# Altium schematic symbol library Amplifier_Current.SchLib: 150 symbols (part 1 of 2)
Pins are listed as number, name and electrical type; pins without a type are passive.

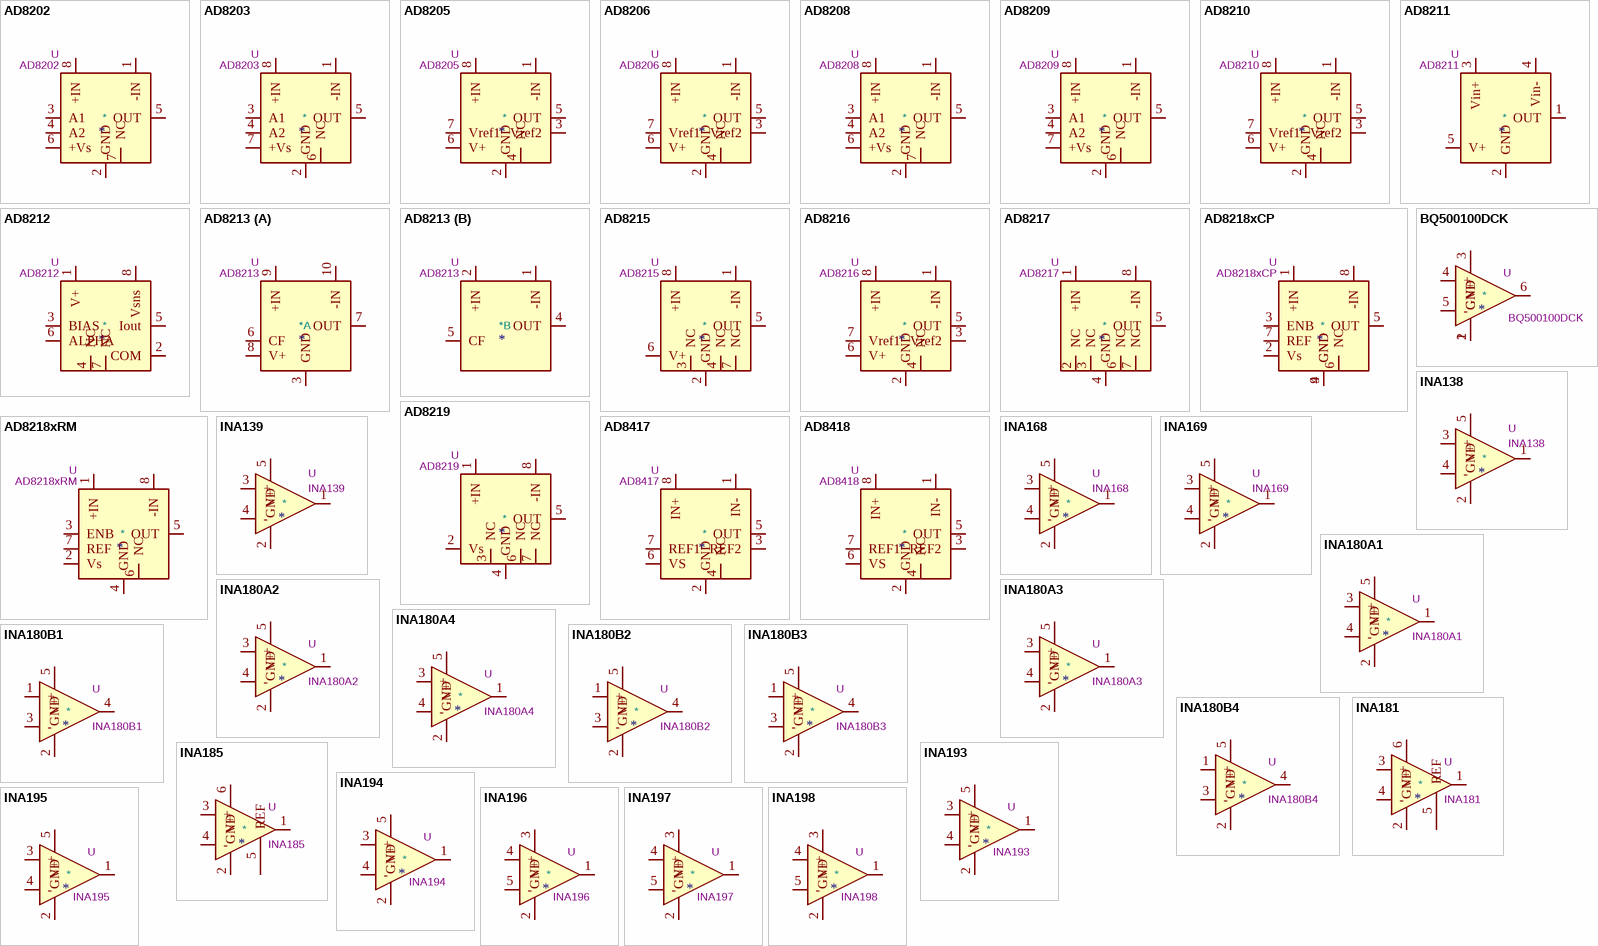
[diagram p0: symbols AD8202 to INA198]

## AD8202
designator *  value AD8202  Reference: U
28V High Common-Mode Voltage, Single-Supply Difference Amplifier, 10V/V x 2V/V adjustable gain, bandwidth 50kHz, Vcc=3.5V~12V, unidirectional, SOIC-8/MSOP-8; ki_keywords: highside HS current sense amplifier linear buffered monitor preamp; ki_fp_filters: SOIC*P1.27mm* MSOP*P0.65mm*; Datasheet: https://www.analog.com/media/en/technical-documentation/data-sheets/AD8202.pdf; Description_: 28V High Common-Mode Voltage, Single-Supply Difference Amplifier, 10V/V x 2V/V adjustable gain, bandwidth 50kHz, Vcc=3.5V~12V, unidirectional, SOIC-8/MSOP-8
pins: 1 -IN, 2 GND, 3 A1, 4 A2, 5 OUT, 6 +Vs, 7 NC, 8 +IN

## AD8203
designator *  value AD8203  Reference: U
30V High Common-Mode Voltage, Single-Supply Difference Amplifier, 7V/V x 2V/V adjustable gain, bandwidth 60kHz, Vcc=3.5V~12V, unidirectional, SOIC-8/MSOP-8; ki_keywords: highside HS current sense amplifier linear buffered monitor preamp; ki_fp_filters: SOIC*P1.27mm* MSOP*P0.65mm*; Datasheet: https://www.analog.com/media/en/technical-documentation/data-sheets/AD8203.pdf; Description_: 30V High Common-Mode Voltage, Single-Supply Difference Amplifier, 7V/V x 2V/V adjustable gain, bandwidth 60kHz, Vcc=3.5V~12V, unidirectional, SOIC-8/MSOP-8
pins: 1 -IN, 2 GND, 3 A1, 4 A2, 5 OUT, 6 NC, 7 +Vs, 8 +IN

## AD8205
designator *  value AD8205  Reference: U
65V Single-Supply, System Difference Amplifier, 50V/V gain, bandwidth 50kHz, Vcc=5V, SOIC-8; ki_keywords: highside HS difference amplifier linear buffered; ki_fp_filters: SOIC*3.9x4.9mm*P1.27mm*; Footprint: Package_SO:SOIC-8_3.9x4.9mm_P1.27mm; Datasheet: https://www.analog.com/media/en/technical-documentation/data-sheets/AD8205.pdf; Description_: 65V Single-Supply, System Difference Amplifier, 50V/V gain, bandwidth 50kHz, Vcc=5V, SOIC-8
pins: 1 -IN, 2 GND, 3 Vref2, 4 NC, 5 OUT, 6 V+, 7 Vref1, 8 +IN

## AD8206
designator *  value AD8206  Reference: U
65V High Common-Mode Voltage, Bidirectional, Current Shunt Amplifier, 20V/V gain, bandwidth 100kHz, Vcc=5V, SOIC-8; ki_keywords: highside HS current sense amplifier linear buffered; ki_fp_filters: SOIC*3.9x4.9mm*P1.27mm*; Footprint: Package_SO:SOIC-8_3.9x4.9mm_P1.27mm; Datasheet: https://www.analog.com/media/en/technical-documentation/data-sheets/AD8206.pdf; Description_: 65V High Common-Mode Voltage, Bidirectional, Current Shunt Amplifier, 20V/V gain, bandwidth 100kHz, Vcc=5V, SOIC-8
pins: 1 -IN, 2 GND, 3 Vref2, 4 NC, 5 OUT, 6 V+, 7 Vref1, 8 +IN

## AD8208
designator *  value AD8208  Reference: U
45V High Voltage, Precision Difference Amplifier, 10V/V x 2V/V adjustable gain, bandwidth 70kHz, Vcc=5V, unidirectional, SOIC-8/MSOP-8; ki_keywords: highside HS current sense amplifier linear buffered monitor preamp; ki_fp_filters: SOIC*P1.27mm* MSOP*P0.65mm*; Datasheet: https://www.analog.com/media/en/technical-documentation/data-sheets/AD8208.pdf; Description_: 45V High Voltage, Precision Difference Amplifier, 10V/V x 2V/V adjustable gain, bandwidth 70kHz, Vcc=5V, unidirectional, SOIC-8/MSOP-8
pins: 1 -IN, 2 GND, 3 A1, 4 A2, 5 OUT, 6 +Vs, 7 NC, 8 +IN

## AD8209
designator *  value AD8209  Reference: U
45V High Voltage, Precision Difference Amplifier, 7V/V x 2V/V adjustable gain, bandwidth 80kHz, Vcc=5V, unidirectional, MSOP-8; ki_keywords: highside HS current sense amplifier linear buffered monitor preamp; ki_fp_filters: SOIC*P1.27mm* MSOP*P0.65mm*; Datasheet: https://www.analog.com/media/en/technical-documentation/data-sheets/AD8209.pdf; Description_: 45V High Voltage, Precision Difference Amplifier, 7V/V x 2V/V adjustable gain, bandwidth 80kHz, Vcc=5V, unidirectional, MSOP-8
pins: 1 -IN, 2 GND, 3 A1, 4 A2, 5 OUT, 6 NC, 7 +Vs, 8 +IN

## AD8210
designator *  value AD8210  Reference: U
65V High Voltage, Bidirectional Current Shunt Monitor, 20V/V gain, bandwidth 450kHz, Vcc=5V, SOIC-8; ki_keywords: highside HS current sense amplifier linear buffered; ki_fp_filters: SOIC*3.9x4.9mm*P1.27mm*; Footprint: Package_SO:SOIC-8_3.9x4.9mm_P1.27mm; Datasheet: https://www.analog.com/media/en/technical-documentation/data-sheets/AD8210.pdf; Description_: 65V High Voltage, Bidirectional Current Shunt Monitor, 20V/V gain, bandwidth 450kHz, Vcc=5V, SOIC-8
pins: 1 -IN, 2 GND, 3 Vref2, 4 NC, 5 OUT, 6 V+, 7 Vref1, 8 +IN

## AD8211
designator *  value AD8211  Reference: U
65V High Voltage, Current Shunt Monitor, 20V/V gain, bandwidth 500kHz, Vcc=5V, SOT-23-5; ki_keywords: highside HS current sense amplifier linear buffered; ki_fp_filters: SOT?23*; Footprint: Package_TO_SOT_SMD:SOT-23-5; Datasheet: https://www.analog.com/media/en/technical-documentation/data-sheets/AD8211.pdf; Description_: 65V High Voltage, Current Shunt Monitor, 20V/V gain, bandwidth 500kHz, Vcc=5V, SOT-23-5
pins: 1 OUT, 2 GND, 3 Vin+, 4 Vin-, 5 V+

## AD8212
designator *  value AD8212  Reference: U
65V High Voltage Current, Shunt Monitor, adjustable gain, bandwidth 1000kHz, Vcc=7V~65V, current output, unidirectional, MSOP-8; ki_keywords: highside HS current sense shunt monitor amplifier linear; ki_fp_filters: MSOP*3x3mm*P0.65mm*; Footprint: Package_SO:MSOP-8_3x3mm_P0.65mm; Datasheet: https://www.analog.com/media/en/technical-documentation/data-sheets/AD8212.pdf; Description_: 65V High Voltage Current, Shunt Monitor, adjustable gain, bandwidth 1000kHz, Vcc=7V~65V, current output, unidirectional, MSOP-8
pins: 1 V+, 2 COM, 3 BIAS, 4 NC, 5 Iout, 6 ALPHA, 7 NC, 8 Vsns

## AD8213
designator *  value AD8213  Reference: U
65V Dual, High Voltage, Current Shunt Monitor, 20V/V gain, bandwidth 500kHz, Vcc=5V, MSOP-10; ki_keywords: highside HS current sense amplifier linear buffered dual monitor; ki_fp_filters: MSOP*3x3mm*P0.5mm*; Footprint: Package_SO:MSOP-10_3x3mm_P0.5mm; Datasheet: https://www.analog.com/media/en/technical-documentation/data-sheets/AD8213.pdf; Description_: 65V Dual, High Voltage, Current Shunt Monitor, 20V/V gain, bandwidth 500kHz, Vcc=5V, MSOP-10
part A pins: 3 GND, 6 CF, 7 OUT, 8 V+, 9 +IN, 10 -IN
part B pins: 1 -IN, 2 +IN, 4 OUT, 5 CF

## AD8215
designator *  value AD8215  Reference: U
65V High Voltage, Current Shunt Monitor, 20V/V gain, bandwidth 450kHz, Vcc=5V, unidirectional, SOIC-8; ki_keywords: highside HS current sense amplifier linear buffered monitor; ki_fp_filters: SOIC*3.9x4.9mm*P1.27mm*; Footprint: Package_SO:SOIC-8_3.9x4.9mm_P1.27mm; Datasheet: https://www.analog.com/media/en/technical-documentation/data-sheets/AD8215.pdf; Description_: 65V High Voltage, Current Shunt Monitor, 20V/V gain, bandwidth 450kHz, Vcc=5V, unidirectional, SOIC-8
pins: 1 -IN, 2 GND, 3 NC, 4 NC, 5 OUT, 6 V+, 7 NC, 8 +IN

## AD8216
designator *  value AD8216  Reference: U
65V High Bandwidth, Bidirectional Difference Amplifier, 3V/V gain, bandwidth 3MHz, Vcc=5V, SOIC-8; ki_keywords: HS difference amplifier linear; ki_fp_filters: SOIC*3.9x4.9mm*P1.27mm*; Footprint: Package_SO:SOIC-8_3.9x4.9mm_P1.27mm; Datasheet: https://www.analog.com/media/en/technical-documentation/data-sheets/AD8216.pdf; Description_: 65V High Bandwidth, Bidirectional Difference Amplifier, 3V/V gain, bandwidth 3MHz, Vcc=5V, SOIC-8
pins: 1 -IN, 2 GND, 3 Vref2, 4 NC, 5 OUT, 6 V+, 7 Vref1, 8 +IN

## AD8217
designator *  value AD8217  Reference: U
80V High Resolution, Zero-Drift, Current Shunt Monitor, 20V/V gain, bandwidth 500kHz, internal LDO, unidirectional, MSOP-8; ki_keywords: highside HS current sense amplifier linear buffered monitor; ki_fp_filters: MSOP*3x3mm*P0.65mm*; Footprint: Package_SO:MSOP-8_3x3mm_P0.65mm; Datasheet: https://www.analog.com/media/en/technical-documentation/data-sheets/AD8217.pdf; Description_: 80V High Resolution, Zero-Drift, Current Shunt Monitor, 20V/V gain, bandwidth 500kHz, internal LDO, unidirectional, MSOP-8
pins: 1 +IN, 2 NC, 3 NC, 4 GND, 5 OUT, 6 NC, 7 NC, 8 -IN

## AD8218xCP
designator *  value AD8218xCP  Reference: U
80V Zero Drift, Bidirectional, Current Shunt Monitor, 20V/V gain, bandwidth 450kHz, Vcc=5V, LFCSP-8; ki_keywords: highside HS current sense amplifier linear buffered; ki_fp_filters: LFCSP*1EP*3x2mm*P0.5mm*; Footprint: Package_CSP:LFCSP-8-1EP_3x2mm_P0.5mm_EP1.6x1.65mm; Datasheet: https://www.analog.com/media/en/technical-documentation/data-sheets/AD8218.pdf; Description_: 80V Zero Drift, Bidirectional, Current Shunt Monitor, 20V/V gain, bandwidth 450kHz, Vcc=5V, LFCSP-8
pins: 1 +IN, 2 Vs, 3 ENB, 4 GND, 5 OUT, 6 NC, 7 REF, 8 -IN, 9 GND

## AD8218xRM
designator *  value AD8218xRM  Reference: U
80V Zero Drift, Bidirectional, Current Shunt Monitor, 20V/V gain, bandwidth 450kHz, Vcc=5V, MSOP-8; ki_keywords: highside HS current sense amplifier linear buffered; ki_fp_filters: MSOP*3x3mm*P0.65mm*; Footprint: Package_SO:MSOP-8_3x3mm_P0.65mm; Datasheet: https://www.analog.com/media/en/technical-documentation/data-sheets/AD8218.pdf; Description_: 80V Zero Drift, Bidirectional, Current Shunt Monitor, 20V/V gain, bandwidth 450kHz, Vcc=5V, MSOP-8
pins: 1 +IN, 2 Vs, 3 ENB, 4 GND, 5 OUT, 6 NC, 7 REF, 8 -IN

## AD8219
designator *  value AD8219  Reference: U
80V Zero Drift, Unidirectional, Current Shunt Monitor, 60V/V gain, bandwidth 500kHz, Vcc=4V~80V, MSOP-8; ki_keywords: highside HS current sense amplifier linear buffered monitor; ki_fp_filters: MSOP*3x3mm*P0.65mm*; Footprint: Package_SO:MSOP-8_3x3mm_P0.65mm; Datasheet: https://www.analog.com/media/en/technical-documentation/data-sheets/AD8219.pdf; Description_: 80V Zero Drift, Unidirectional, Current Shunt Monitor, 60V/V gain, bandwidth 500kHz, Vcc=4V~80V, MSOP-8
pins: 1 +IN, 2 Vs, 3 NC, 4 GND, 5 OUT, 6 NC, 7 NC, 8 -IN

## AD8417
designator *  value AD8417  Reference: U
70V Bidirectional, Zero Drift, Current Sense Amplifier, 60V/V gain, bandwidth 250kHz, VS=2.7V~5.5V, SOIC-8/MSOP-8; ki_keywords: highside HS current sense amplifier linear; ki_fp_filters: SOIC*3.9x4.9mm*P1.27mm* MSOP*3x3mm*P0.65mm*; Datasheet: https://www.analog.com/media/en/technical-documentation/data-sheets/AD8417.pdf; Description_: 70V Bidirectional, Zero Drift, Current Sense Amplifier, 60V/V gain, bandwidth 250kHz, VS=2.7V~5.5V, SOIC-8/MSOP-8
pins: 1 IN-, 2 GND, 3 REF2, 4 NC, 5 OUT, 6 VS, 7 REF1, 8 IN+

## AD8418
designator *  value AD8418  Reference: U
70V Bidirectional, Zero Drift, Current Sense Amplifier, 20V/V gain, bandwidth 250kHz, VS=2.7V~5.5V, SOIC-8/MSOP-8; ki_keywords: highside HS current sense amplifier linear; ki_fp_filters: SOIC*3.9x4.9mm*P1.27mm* MSOP*3x3mm*P0.65mm*; Datasheet: https://www.analog.com/media/en/technical-documentation/data-sheets/AD8418.pdf; Description_: 70V Bidirectional, Zero Drift, Current Sense Amplifier, 20V/V gain, bandwidth 250kHz, VS=2.7V~5.5V, SOIC-8/MSOP-8
pins: 1 IN-, 2 GND, 3 REF2, 4 NC, 5 OUT, 6 VS, 7 REF1, 8 IN+

## BQ500100DCK
designator *  value BQ500100DCK  Reference: U
20V High side current sensor, Voltage Output, 50V/V Gain, SC-70-6; ki_keywords: Current shunt monitor; ki_fp_filters: SOT?363*; Footprint: Package_TO_SOT_SMD:SOT-363_SC-70-6; Datasheet: http://www.ti.com/lit/ds/symlink/bq500100.pdf; Description_: 20V High side current sensor, Voltage Output, 50V/V Gain, SC-70-6
pins: 1 GND, 2 GND, 3 V+, 4 +, 5 -, 6

## INA138
designator *  value INA138  Reference: U
High-Side Measurement Current Shunt Monitor, 36V, SOT-23-5; ki_keywords: current sense shunt monitor; ki_fp_filters: SOT?23*; Footprint: Package_TO_SOT_SMD:SOT-23-5; Datasheet: http://www.ti.com/lit/ds/symlink/ina138.pdf; Description_: High-Side Measurement Current Shunt Monitor, 36V, SOT-23-5
pins: 1, 2 GND, 3 +, 4 -, 5 V+

## INA139
designator *  value INA139  Reference: U
High-Side Measurement Current Shunt Monitor, 40V, SOT-23-5; ki_keywords: current sense shunt monitor; ki_fp_filters: SOT?23*; Footprint: Package_TO_SOT_SMD:SOT-23-5; Datasheet: http://www.ti.com/lit/ds/symlink/ina169.pdf; Description_: High-Side Measurement Current Shunt Monitor, 40V, SOT-23-5
pins: 1, 2 GND, 3 +, 4 -, 5 V+

## INA168
designator *  value INA168  Reference: U
High-Side Measurement Current Shunt Monitor, 60V, SOT-23-5; ki_keywords: current sense shunt monitor; ki_fp_filters: SOT?23*; Footprint: Package_TO_SOT_SMD:SOT-23-5; Datasheet: http://www.ti.com/lit/ds/symlink/ina138.pdf; Description_: High-Side Measurement Current Shunt Monitor, 60V, SOT-23-5
pins: 1, 2 GND, 3 +, 4 -, 5 V+

## INA169
designator *  value INA169  Reference: U
High-Side Measurement Current Shunt Monitor, 60V, SOT-23-5; ki_keywords: current sense shunt monitor; ki_fp_filters: SOT?23*; Footprint: Package_TO_SOT_SMD:SOT-23-5; Datasheet: http://www.ti.com/lit/ds/symlink/ina169.pdf; Description_: High-Side Measurement Current Shunt Monitor, 60V, SOT-23-5
pins: 1, 2 GND, 3 +, 4 -, 5 V+

## INA180A1
designator *  value INA180A1  Reference: U
Current Sense Amplifier, 1 Circuit, Rail-to-Rail, 26V, Gain 20 V/V, SOT-23-5; ki_keywords: current monitor shunt sensor; ki_fp_filters: SOT?23*; Footprint: Package_TO_SOT_SMD:SOT-23-5; Datasheet: http://www.ti.com/lit/ds/symlink/ina180.pdf; Description_: Current Sense Amplifier, 1 Circuit, Rail-to-Rail, 26V, Gain 20 V/V, SOT-23-5
pins: 1, 2 GND, 3 +, 4 -, 5 V+

## INA180A2
designator *  value INA180A2  Reference: U
Current Sense Amplifier, 1 Circuit, Rail-to-Rail, 26V, Gain 50 V/V, SOT-23-5; ki_keywords: current monitor shunt sensor; ki_fp_filters: SOT?23*; Footprint: Package_TO_SOT_SMD:SOT-23-5; Datasheet: http://www.ti.com/lit/ds/symlink/ina180.pdf; Description_: Current Sense Amplifier, 1 Circuit, Rail-to-Rail, 26V, Gain 50 V/V, SOT-23-5
pins: 1, 2 GND, 3 +, 4 -, 5 V+

## INA180A3
designator *  value INA180A3  Reference: U
Current Sense Amplifier, 1 Circuit, Rail-to-Rail, 26V, Gain 100 V/V, SOT-23-5; ki_keywords: current monitor shunt sensor; ki_fp_filters: SOT?23*; Footprint: Package_TO_SOT_SMD:SOT-23-5; Datasheet: http://www.ti.com/lit/ds/symlink/ina180.pdf; Description_: Current Sense Amplifier, 1 Circuit, Rail-to-Rail, 26V, Gain 100 V/V, SOT-23-5
pins: 1, 2 GND, 3 +, 4 -, 5 V+

## INA180A4
designator *  value INA180A4  Reference: U
Current Sense Amplifier, 1 Circuit, Rail-to-Rail, 26V, Gain 200 V/V, SOT-23-5; ki_keywords: current monitor shunt sensor; ki_fp_filters: SOT?23*; Footprint: Package_TO_SOT_SMD:SOT-23-5; Datasheet: http://www.ti.com/lit/ds/symlink/ina180.pdf; Description_: Current Sense Amplifier, 1 Circuit, Rail-to-Rail, 26V, Gain 200 V/V, SOT-23-5
pins: 1, 2 GND, 3 +, 4 -, 5 V+

## INA180B1
designator *  value INA180B1  Reference: U
Current Sense Amplifier, 1 Circuit, Rail-to-Rail, 26V, Gain 20 V/V, SOT-23-5; ki_keywords: current monitor shunt sensor; ki_fp_filters: SOT?23*; Footprint: Package_TO_SOT_SMD:SOT-23-5; Datasheet: http://www.ti.com/lit/ds/symlink/ina180.pdf; Description_: Current Sense Amplifier, 1 Circuit, Rail-to-Rail, 26V, Gain 20 V/V, SOT-23-5
pins: 1 +, 2 GND, 3 -, 4, 5 V+

## INA180B2
designator *  value INA180B2  Reference: U
Current Sense Amplifier, 1 Circuit, Rail-to-Rail, 26V, Gain 50 V/V, SOT-23-5; ki_keywords: current monitor shunt sensor; ki_fp_filters: SOT?23*; Footprint: Package_TO_SOT_SMD:SOT-23-5; Datasheet: http://www.ti.com/lit/ds/symlink/ina180.pdf; Description_: Current Sense Amplifier, 1 Circuit, Rail-to-Rail, 26V, Gain 50 V/V, SOT-23-5
pins: 1 +, 2 GND, 3 -, 4, 5 V+

## INA180B3
designator *  value INA180B3  Reference: U
Current Sense Amplifier, 1 Circuit, Rail-to-Rail, 26V, Gain 100 V/V, SOT-23-5; ki_keywords: current monitor shunt sensor; ki_fp_filters: SOT?23*; Footprint: Package_TO_SOT_SMD:SOT-23-5; Datasheet: http://www.ti.com/lit/ds/symlink/ina180.pdf; Description_: Current Sense Amplifier, 1 Circuit, Rail-to-Rail, 26V, Gain 100 V/V, SOT-23-5
pins: 1 +, 2 GND, 3 -, 4, 5 V+

## INA180B4
designator *  value INA180B4  Reference: U
Current Sense Amplifier, 1 Circuit, Rail-to-Rail, 26V, Gain 200 V/V, SOT-23-5; ki_keywords: current monitor shunt sensor; ki_fp_filters: SOT?23*; Footprint: Package_TO_SOT_SMD:SOT-23-5; Datasheet: http://www.ti.com/lit/ds/symlink/ina180.pdf; Description_: Current Sense Amplifier, 1 Circuit, Rail-to-Rail, 26V, Gain 200 V/V, SOT-23-5
pins: 1 +, 2 GND, 3 -, 4, 5 V+

## INA181
designator *  value INA181  Reference: U
Bidirectional, Low- and High-Side Voltage Output, Current-Sense Amplifier, SOT-23-6; ki_keywords: current monitor shunt sensor bidirectional; ki_fp_filters: SOT?23*; Footprint: Package_TO_SOT_SMD:SOT-23-6; Datasheet: http://www.ti.com/lit/ds/symlink/ina181.pdf; Description_: Bidirectional, Low- and High-Side Voltage Output, Current-Sense Amplifier, SOT-23-6
pins: 1, 2 GND, 3 +, 4 -, 5 REF, 6 V+

## INA185
designator *  value INA185  Reference: U
Ultra-small, bidirectional, precision low-side and high-side, voltage output current-sense amplifier (SOT-563); ki_keywords: current monitor shunt sensor bidirectional; ki_fp_filters: SOT*563*; Footprint: Package_TO_SOT_SMD:SOT-563; Datasheet: https://www.ti.com/lit/ds/symlink/ina185.pdf; Description_: Ultra-small, bidirectional, precision low-side and high-side, voltage output current-sense amplifier (SOT-563)
pins: 1, 2 GND, 3 +, 4 -, 5 REF, 6 V+

## INA193
designator *  value INA193  Reference: U
Current Shunt Monitor −16V to +80V Common-Mode Range, 20V/V, SOT-23-5; ki_keywords: current sense shunt monitor; ki_fp_filters: SOT?23*; Footprint: Package_TO_SOT_SMD:SOT-23-5; Datasheet: http://www.ti.com/lit/ds/symlink/ina193.pdf; Description_: Current Shunt Monitor −16V to +80V Common-Mode Range, 20V/V, SOT-23-5
pins: 1, 2 GND, 3 +, 4 -, 5 V+

## INA194
designator *  value INA194  Reference: U
Current Shunt Monitor −16V to +80V Common-Mode Range, 50V/V, SOT-23-5; ki_keywords: current sense shunt monitor; ki_fp_filters: SOT?23*; Footprint: Package_TO_SOT_SMD:SOT-23-5; Datasheet: http://www.ti.com/lit/ds/symlink/ina193.pdf; Description_: Current Shunt Monitor −16V to +80V Common-Mode Range, 50V/V, SOT-23-5
pins: 1, 2 GND, 3 +, 4 -, 5 V+

## INA195
designator *  value INA195  Reference: U
Current Shunt Monitor −16V to +80V Common-Mode Range, 100V/V, SOT-23-5; ki_keywords: current sense shunt monitor; ki_fp_filters: SOT?23*; Footprint: Package_TO_SOT_SMD:SOT-23-5; Datasheet: http://www.ti.com/lit/ds/symlink/ina193.pdf; Description_: Current Shunt Monitor −16V to +80V Common-Mode Range, 100V/V, SOT-23-5
pins: 1, 2 GND, 3 +, 4 -, 5 V+

## INA196
designator *  value INA196  Reference: U
Current Shunt Monitor −16V to +80V Common-Mode Range, 20V/V, SOT-23-5; ki_keywords: current sense shunt monitor; ki_fp_filters: SOT?23*; Footprint: Package_TO_SOT_SMD:SOT-23-5; Datasheet: http://www.ti.com/lit/ds/symlink/ina193.pdf; Description_: Current Shunt Monitor −16V to +80V Common-Mode Range, 20V/V, SOT-23-5
pins: 1, 2 GND, 3 V+, 4 +, 5 -

## INA197
designator *  value INA197  Reference: U
Current Shunt Monitor −16V to +80V Common-Mode Range, 50V/V, SOT-23-5; ki_keywords: current sense shunt monitor; ki_fp_filters: SOT?23*; Footprint: Package_TO_SOT_SMD:SOT-23-5; Datasheet: http://www.ti.com/lit/ds/symlink/ina193.pdf; Description_: Current Shunt Monitor −16V to +80V Common-Mode Range, 50V/V, SOT-23-5
pins: 1, 2 GND, 3 V+, 4 +, 5 -

## INA198
designator *  value INA198  Reference: U
Current Shunt Monitor −16V to +80V Common-Mode Range, 100V/V, SOT-23-5; ki_keywords: current sense shunt monitor; ki_fp_filters: SOT?23*; Footprint: Package_TO_SOT_SMD:SOT-23-5; Datasheet: http://www.ti.com/lit/ds/symlink/ina193.pdf; Description_: Current Shunt Monitor −16V to +80V Common-Mode Range, 100V/V, SOT-23-5
pins: 1, 2 GND, 3 V+, 4 +, 5 -

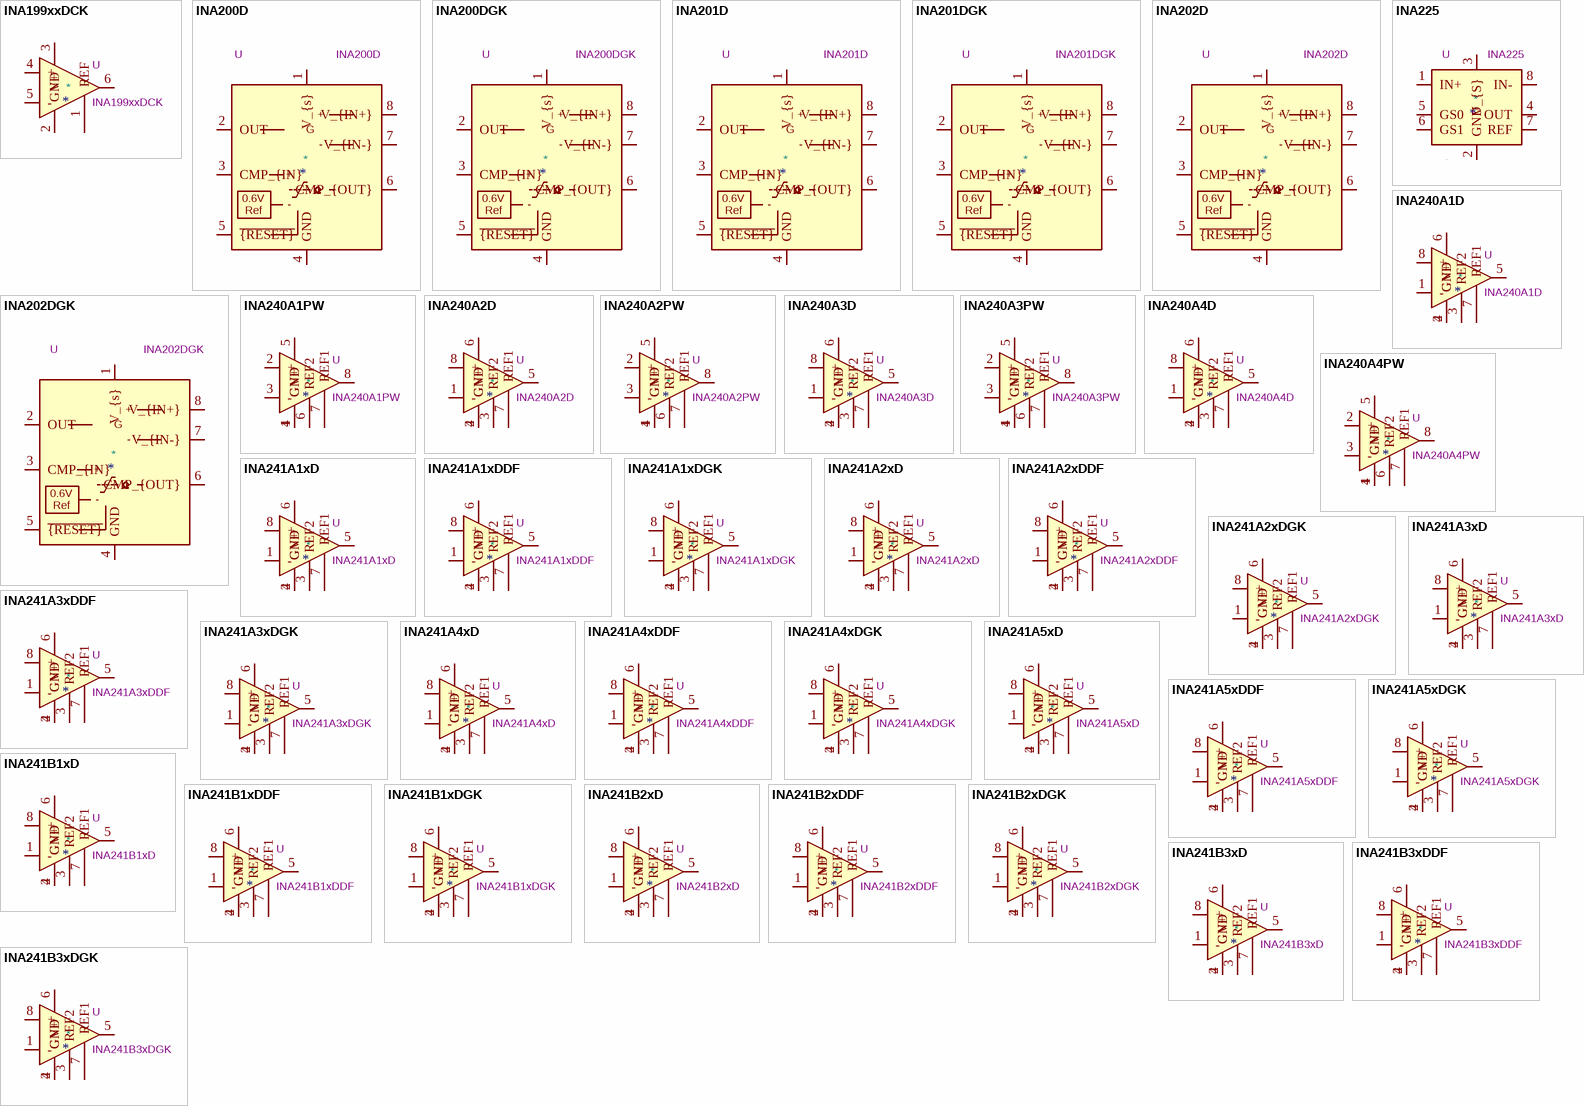
[diagram p1: symbols INA199xxDCK to INA241B3xDGK]

## INA199xxDCK
designator *  value INA199xxDCK  Reference: U
INA199 26-V, Bidirectional, Zero-Drift, Low- or High-Side, Voltage-Output, Current-Shunt Monitor, SOT-363, SC-70; ki_keywords: current monitor shunt sensor bidirectional; ki_fp_filters: *SC?70*; Footprint: Package_TO_SOT_SMD:SOT-363_SC-70-6; Datasheet: http://www.ti.com/lit/ds/symlink/ina199.pdf; Description_: INA199 26-V, Bidirectional, Zero-Drift, Low- or High-Side, Voltage-Output, Current-Shunt Monitor, SOT-363, SC-70
pins: 1 REF, 2 GND, 3 V+, 4 +, 5 -, 6

## INA200D
designator *  value INA200D  Reference: U
Current Shunt Monitor, integrated comparator and reference, -16V to +80V Common-Mode Range, 20V/V, SOIC-8; ki_keywords: current-sense amplifier fixed-gain high-side low-side; ki_fp_filters: SOIC*3.9x4.9mm*P1.27mm*; Footprint: Package_SO:SOIC-8_3.9x4.9mm_P1.27mm; Datasheet: https://www.ti.com/lit/ds/symlink/ina201.pdf; Description_: Current Shunt Monitor, integrated comparator and reference, -16V to +80V Common-Mode Range, 20V/V, SOIC-8
pins: 1 V_{s}, 2 OUT, 3 CMP_{IN}, 4 GND, 5 ~{{RESET}}, 6 CMP_{OUT}, 7 V_{IN-}, 8 V_{IN+}
text: +; G; -; 0.6V; Ref

## INA200DGK
designator *  value INA200DGK  Reference: U
Current Shunt Monitor, integrated comparator and reference, -16V to +80V Common-Mode Range, 20V/V, VSSOP-8; ki_keywords: current-sense amplifier fixed-gain high-side low-side; ki_fp_filters: VSSOP*3x3mm*P0.65mm*; Footprint: Package_SO:VSSOP-8_3x3mm_P0.65mm; Datasheet: https://www.ti.com/lit/ds/symlink/ina201.pdf; Description_: Current Shunt Monitor, integrated comparator and reference, -16V to +80V Common-Mode Range, 20V/V, VSSOP-8
pins: 1 V_{s}, 2 OUT, 3 CMP_{IN}, 4 GND, 5 ~{{RESET}}, 6 CMP_{OUT}, 7 V_{IN-}, 8 V_{IN+}
text: +; G; -; 0.6V; Ref

## INA201D
designator *  value INA201D  Reference: U
Current Shunt Monitor, integrated comparator and reference, -16V to +80V Common-Mode Range, 50V/V, SOIC-8; ki_keywords: current-sense amplifier fixed-gain high-side low-side; ki_fp_filters: SOIC*3.9x4.9mm*P1.27mm*; Footprint: Package_SO:SOIC-8_3.9x4.9mm_P1.27mm; Datasheet: https://www.ti.com/lit/ds/symlink/ina201.pdf; Description_: Current Shunt Monitor, integrated comparator and reference, -16V to +80V Common-Mode Range, 50V/V, SOIC-8
pins: 1 V_{s}, 2 OUT, 3 CMP_{IN}, 4 GND, 5 ~{{RESET}}, 6 CMP_{OUT}, 7 V_{IN-}, 8 V_{IN+}
text: +; G; -; 0.6V; Ref

## INA201DGK
designator *  value INA201DGK  Reference: U
Current Shunt Monitor, integrated comparator and reference, -16V to +80V Common-Mode Range, 50V/V, VSSOP-8; ki_keywords: current-sense amplifier fixed-gain high-side low-side; ki_fp_filters: VSSOP*3x3mm*P0.65mm*; Footprint: Package_SO:VSSOP-8_3x3mm_P0.65mm; Datasheet: https://www.ti.com/lit/ds/symlink/ina201.pdf; Description_: Current Shunt Monitor, integrated comparator and reference, -16V to +80V Common-Mode Range, 50V/V, VSSOP-8
pins: 1 V_{s}, 2 OUT, 3 CMP_{IN}, 4 GND, 5 ~{{RESET}}, 6 CMP_{OUT}, 7 V_{IN-}, 8 V_{IN+}
text: +; G; -; 0.6V; Ref

## INA202D
designator *  value INA202D  Reference: U
Current Shunt Monitor, integrated comparator and reference, -16V to +80V Common-Mode Range, 100V/V, SOIC-8; ki_keywords: current-sense amplifier fixed-gain high-side low-side; ki_fp_filters: SOIC*3.9x4.9mm*P1.27mm*; Footprint: Package_SO:SOIC-8_3.9x4.9mm_P1.27mm; Datasheet: https://www.ti.com/lit/ds/symlink/ina201.pdf; Description_: Current Shunt Monitor, integrated comparator and reference, -16V to +80V Common-Mode Range, 100V/V, SOIC-8
pins: 1 V_{s}, 2 OUT, 3 CMP_{IN}, 4 GND, 5 ~{{RESET}}, 6 CMP_{OUT}, 7 V_{IN-}, 8 V_{IN+}
text: +; G; -; 0.6V; Ref

## INA202DGK
designator *  value INA202DGK  Reference: U
Current Shunt Monitor, integrated comparator and reference, -16V to +80V Common-Mode Range, 100V/V, VSSOP-8; ki_keywords: current-sense amplifier fixed-gain high-side low-side; ki_fp_filters: VSSOP*3x3mm*P0.65mm*; Footprint: Package_SO:VSSOP-8_3x3mm_P0.65mm; Datasheet: https://www.ti.com/lit/ds/symlink/ina201.pdf; Description_: Current Shunt Monitor, integrated comparator and reference, -16V to +80V Common-Mode Range, 100V/V, VSSOP-8
pins: 1 V_{s}, 2 OUT, 3 CMP_{IN}, 4 GND, 5 ~{{RESET}}, 6 CMP_{OUT}, 7 V_{IN-}, 8 V_{IN+}
text: +; G; -; 0.6V; Ref

## INA225
designator *  value INA225  Reference: U
36-V, Bidirectional Current Sense Amplifier, With Four Pin-Selectable Gain Settings, VSSOP-8; ki_keywords: voltage-output current-sense amplifier shunt; ki_fp_filters: VSSOP*3x3mm*P0.65mm*; Footprint: Package_SO:VSSOP-8_3x3mm_P0.65mm; Datasheet: https://www.ti.com/lit/ds/symlink/ina225-q1.pdf; Description_: 36-V, Bidirectional Current Sense Amplifier, With Four Pin-Selectable Gain Settings, VSSOP-8
pins: 1 IN+, 2 GND, 3 V_{S}, 4 OUT, 5 GS0, 6 GS1, 7 REF, 8 IN-

## INA240A1D
designator *  value INA240A1D  Reference: U
High- and Low-Side, Bidirectional, Zero-Drift, Current-Sense Amplifier With Enhanced PWM Rejection, 20V/V, SOIC-8; ki_keywords: current monitor shunt sensor bidirectional high low; ki_fp_filters: SOIC*3.9x4.9mm*P1.27mm*; Footprint: Package_SO:SOIC-8_3.9x4.9mm_P1.27mm; Datasheet: http://www.ti.com/lit/ds/symlink/ina240.pdf; Description_: High- and Low-Side, Bidirectional, Zero-Drift, Current-Sense Amplifier With Enhanced PWM Rejection, 20V/V, SOIC-8
pins: 1 -, 2 GND, 3 REF2, 4 GND, 5, 6 V+, 7 REF1, 8 +

## INA240A1PW
designator *  value INA240A1PW  Reference: U
High- and Low-Side, Bidirectional, Zero-Drift, Current-Sense Amplifier With Enhanced PWM Rejection, 20V/V, TSSOP-8; ki_keywords: current monitor shunt sensor bidirectional high low; ki_fp_filters: TSSOP*4.4x3mm*P0.65mm*; Footprint: Package_SO:TSSOP-8_4.4x3mm_P0.65mm; Datasheet: http://www.ti.com/lit/ds/symlink/ina240.pdf; Description_: High- and Low-Side, Bidirectional, Zero-Drift, Current-Sense Amplifier With Enhanced PWM Rejection, 20V/V, TSSOP-8
pins: 1 GND, 2 +, 3 -, 4 GND, 5 V+, 6 REF2, 7 REF1, 8

## INA240A2D
designator *  value INA240A2D  Reference: U
High- and Low-Side, Bidirectional, Zero-Drift, Current-Sense Amplifier With Enhanced PWM Rejection, 50V/V, SOIC-8; ki_keywords: current monitor shunt sensor bidirectional high low; ki_fp_filters: SOIC*3.9x4.9mm*P1.27mm*; Footprint: Package_SO:SOIC-8_3.9x4.9mm_P1.27mm; Datasheet: http://www.ti.com/lit/ds/symlink/ina240.pdf; Description_: High- and Low-Side, Bidirectional, Zero-Drift, Current-Sense Amplifier With Enhanced PWM Rejection, 50V/V, SOIC-8
pins: 1 -, 2 GND, 3 REF2, 4 GND, 5, 6 V+, 7 REF1, 8 +

## INA240A2PW
designator *  value INA240A2PW  Reference: U
High- and Low-Side, Bidirectional, Zero-Drift, Current-Sense Amplifier With Enhanced PWM Rejection, 50V/V, TSSOP-8; ki_keywords: current monitor shunt sensor bidirectional high low; ki_fp_filters: TSSOP*4.4x3mm*P0.65mm*; Footprint: Package_SO:TSSOP-8_4.4x3mm_P0.65mm; Datasheet: http://www.ti.com/lit/ds/symlink/ina240.pdf; Description_: High- and Low-Side, Bidirectional, Zero-Drift, Current-Sense Amplifier With Enhanced PWM Rejection, 50V/V, TSSOP-8
pins: 1 GND, 2 +, 3 -, 4 GND, 5 V+, 6 REF2, 7 REF1, 8

## INA240A3D
designator *  value INA240A3D  Reference: U
High- and Low-Side, Bidirectional, Zero-Drift, Current-Sense Amplifier With Enhanced PWM Rejection, 100V/V, SOIC-8; ki_keywords: current monitor shunt sensor bidirectional high low; ki_fp_filters: SOIC*3.9x4.9mm*P1.27mm*; Footprint: Package_SO:SOIC-8_3.9x4.9mm_P1.27mm; Datasheet: http://www.ti.com/lit/ds/symlink/ina240.pdf; Description_: High- and Low-Side, Bidirectional, Zero-Drift, Current-Sense Amplifier With Enhanced PWM Rejection, 100V/V, SOIC-8
pins: 1 -, 2 GND, 3 REF2, 4 GND, 5, 6 V+, 7 REF1, 8 +

## INA240A3PW
designator *  value INA240A3PW  Reference: U
High- and Low-Side, Bidirectional, Zero-Drift, Current-Sense Amplifier With Enhanced PWM Rejection, 100V/V, TSSOP-8; ki_keywords: current monitor shunt sensor bidirectional high low; ki_fp_filters: TSSOP*4.4x3mm*P0.65mm*; Footprint: Package_SO:TSSOP-8_4.4x3mm_P0.65mm; Datasheet: http://www.ti.com/lit/ds/symlink/ina240.pdf; Description_: High- and Low-Side, Bidirectional, Zero-Drift, Current-Sense Amplifier With Enhanced PWM Rejection, 100V/V, TSSOP-8
pins: 1 GND, 2 +, 3 -, 4 GND, 5 V+, 6 REF2, 7 REF1, 8

## INA240A4D
designator *  value INA240A4D  Reference: U
High- and Low-Side, Bidirectional, Zero-Drift, Current-Sense Amplifier With Enhanced PWM Rejection, 200V/V, SOIC-8; ki_keywords: current monitor shunt sensor bidirectional high low; ki_fp_filters: SOIC*3.9x4.9mm*P1.27mm*; Footprint: Package_SO:SOIC-8_3.9x4.9mm_P1.27mm; Datasheet: http://www.ti.com/lit/ds/symlink/ina240.pdf; Description_: High- and Low-Side, Bidirectional, Zero-Drift, Current-Sense Amplifier With Enhanced PWM Rejection, 200V/V, SOIC-8
pins: 1 -, 2 GND, 3 REF2, 4 GND, 5, 6 V+, 7 REF1, 8 +

## INA240A4PW
designator *  value INA240A4PW  Reference: U
High- and Low-Side, Bidirectional, Zero-Drift, Current-Sense Amplifier With Enhanced PWM Rejection, 200V/V, TSSOP-8; ki_keywords: current monitor shunt sensor bidirectional high low; ki_fp_filters: TSSOP*4.4x3mm*P0.65mm*; Footprint: Package_SO:TSSOP-8_4.4x3mm_P0.65mm; Datasheet: http://www.ti.com/lit/ds/symlink/ina240.pdf; Description_: High- and Low-Side, Bidirectional, Zero-Drift, Current-Sense Amplifier With Enhanced PWM Rejection, 200V/V, TSSOP-8
pins: 1 GND, 2 +, 3 -, 4 GND, 5 V+, 6 REF2, 7 REF1, 8

## INA241A1xD
designator *  value INA241A1xD  Reference: U
High- and Low-Side, Bidirectional, Zero-Drift, Current-Sense Amplifier With Enhanced PWM Rejection, 10V/V, ±0.01% Gain Accuracy, ±10 μV Offset Voltage, SOIC-8; ki_keywords: current monitor shunt sensor bidirectional high low; ki_fp_filters: SOIC*3.9x4.9mm*P1.27mm*; Footprint: Package_SO:SOIC-8_3.9x4.9mm_P1.27mm; Datasheet: https://www.ti.com/lit/ds/symlink/ina241b.pdf; Description_: High- and Low-Side, Bidirectional, Zero-Drift, Current-Sense Amplifier With Enhanced PWM Rejection, 10V/V, ±0.01% Gain Accuracy, ±10 μV Offset Voltage, SOIC-8
pins: 1 -, 2 GND, 3 REF2, 4 GND, 5, 6 V+, 7 REF1, 8 +

## INA241A1xDDF
designator *  value INA241A1xDDF  Reference: U
High- and Low-Side, Bidirectional, Zero-Drift, Current-Sense Amplifier With Enhanced PWM Rejection, 10V/V, ±0.01% Gain Accuracy, ±10 μV Offset Voltage, SOT-23-8; ki_keywords: current monitor shunt sensor bidirectional high low; ki_fp_filters: SOT?23*; Footprint: Package_TO_SOT_SMD:SOT-23-8; Datasheet: https://www.ti.com/lit/ds/symlink/ina241b.pdf; Description_: High- and Low-Side, Bidirectional, Zero-Drift, Current-Sense Amplifier With Enhanced PWM Rejection, 10V/V, ±0.01% Gain Accuracy, ±10 μV Offset Voltage, SOT-23-8
pins: 1 -, 2 GND, 3 REF2, 4 GND, 5, 6 V+, 7 REF1, 8 +

## INA241A1xDGK
designator *  value INA241A1xDGK  Reference: U
High- and Low-Side, Bidirectional, Zero-Drift, Current-Sense Amplifier With Enhanced PWM Rejection, 10V/V, ±0.01% Gain Accuracy, ±10 μV Offset Voltage, VSSOP-8; ki_keywords: current monitor shunt sensor bidirectional high low; ki_fp_filters: VSSOP*3x3mm*P0.65mm*; Footprint: Package_SO:VSSOP-8_3x3mm_P0.65mm; Datasheet: https://www.ti.com/lit/ds/symlink/ina241b.pdf; Description_: High- and Low-Side, Bidirectional, Zero-Drift, Current-Sense Amplifier With Enhanced PWM Rejection, 10V/V, ±0.01% Gain Accuracy, ±10 μV Offset Voltage, VSSOP-8
pins: 1 -, 2 GND, 3 REF2, 4 GND, 5, 6 V+, 7 REF1, 8 +

## INA241A2xD
designator *  value INA241A2xD  Reference: U
High- and Low-Side, Bidirectional, Zero-Drift, Current-Sense Amplifier With Enhanced PWM Rejection, 20V/V, ±0.01% Gain Accuracy, ±10 μV Offset Voltage, SOIC-8; ki_keywords: current monitor shunt sensor bidirectional high low; ki_fp_filters: SOIC*3.9x4.9mm*P1.27mm*; Footprint: Package_SO:SOIC-8_3.9x4.9mm_P1.27mm; Datasheet: https://www.ti.com/lit/ds/symlink/ina241b.pdf; Description_: High- and Low-Side, Bidirectional, Zero-Drift, Current-Sense Amplifier With Enhanced PWM Rejection, 20V/V, ±0.01% Gain Accuracy, ±10 μV Offset Voltage, SOIC-8
pins: 1 -, 2 GND, 3 REF2, 4 GND, 5, 6 V+, 7 REF1, 8 +

## INA241A2xDDF
designator *  value INA241A2xDDF  Reference: U
High- and Low-Side, Bidirectional, Zero-Drift, Current-Sense Amplifier With Enhanced PWM Rejection, 20V/V, ±0.01% Gain Accuracy, ±10 μV Offset Voltage, SOT-23-8; ki_keywords: current monitor shunt sensor bidirectional high low; ki_fp_filters: SOT?23*; Footprint: Package_TO_SOT_SMD:SOT-23-8; Datasheet: https://www.ti.com/lit/ds/symlink/ina241b.pdf; Description_: High- and Low-Side, Bidirectional, Zero-Drift, Current-Sense Amplifier With Enhanced PWM Rejection, 20V/V, ±0.01% Gain Accuracy, ±10 μV Offset Voltage, SOT-23-8
pins: 1 -, 2 GND, 3 REF2, 4 GND, 5, 6 V+, 7 REF1, 8 +

## INA241A2xDGK
designator *  value INA241A2xDGK  Reference: U
High- and Low-Side, Bidirectional, Zero-Drift, Current-Sense Amplifier With Enhanced PWM Rejection, 20V/V, ±0.01% Gain Accuracy, ±10 μV Offset Voltage, VSSOP-8; ki_keywords: current monitor shunt sensor bidirectional high low; ki_fp_filters: VSSOP*3x3mm*P0.65mm*; Footprint: Package_SO:VSSOP-8_3x3mm_P0.65mm; Datasheet: https://www.ti.com/lit/ds/symlink/ina241b.pdf; Description_: High- and Low-Side, Bidirectional, Zero-Drift, Current-Sense Amplifier With Enhanced PWM Rejection, 20V/V, ±0.01% Gain Accuracy, ±10 μV Offset Voltage, VSSOP-8
pins: 1 -, 2 GND, 3 REF2, 4 GND, 5, 6 V+, 7 REF1, 8 +

## INA241A3xD
designator *  value INA241A3xD  Reference: U
High- and Low-Side, Bidirectional, Zero-Drift, Current-Sense Amplifier With Enhanced PWM Rejection, 50V/V, ±0.01% Gain Accuracy, ±10 μV Offset Voltage, SOIC-8; ki_keywords: current monitor shunt sensor bidirectional high low; ki_fp_filters: SOIC*3.9x4.9mm*P1.27mm*; Footprint: Package_SO:SOIC-8_3.9x4.9mm_P1.27mm; Datasheet: https://www.ti.com/lit/ds/symlink/ina241b.pdf; Description_: High- and Low-Side, Bidirectional, Zero-Drift, Current-Sense Amplifier With Enhanced PWM Rejection, 50V/V, ±0.01% Gain Accuracy, ±10 μV Offset Voltage, SOIC-8
pins: 1 -, 2 GND, 3 REF2, 4 GND, 5, 6 V+, 7 REF1, 8 +

## INA241A3xDDF
designator *  value INA241A3xDDF  Reference: U
High- and Low-Side, Bidirectional, Zero-Drift, Current-Sense Amplifier With Enhanced PWM Rejection, 50V/V, ±0.01% Gain Accuracy, ±10 μV Offset Voltage, SOT-23-8; ki_keywords: current monitor shunt sensor bidirectional high low; ki_fp_filters: SOT?23*; Footprint: Package_TO_SOT_SMD:SOT-23-8; Datasheet: https://www.ti.com/lit/ds/symlink/ina241b.pdf; Description_: High- and Low-Side, Bidirectional, Zero-Drift, Current-Sense Amplifier With Enhanced PWM Rejection, 50V/V, ±0.01% Gain Accuracy, ±10 μV Offset Voltage, SOT-23-8
pins: 1 -, 2 GND, 3 REF2, 4 GND, 5, 6 V+, 7 REF1, 8 +

## INA241A3xDGK
designator *  value INA241A3xDGK  Reference: U
High- and Low-Side, Bidirectional, Zero-Drift, Current-Sense Amplifier With Enhanced PWM Rejection, 50V/V, ±0.01% Gain Accuracy, ±10 μV Offset Voltage, VSSOP-8; ki_keywords: current monitor shunt sensor bidirectional high low; ki_fp_filters: VSSOP*3x3mm*P0.65mm*; Footprint: Package_SO:VSSOP-8_3x3mm_P0.65mm; Datasheet: https://www.ti.com/lit/ds/symlink/ina241b.pdf; Description_: High- and Low-Side, Bidirectional, Zero-Drift, Current-Sense Amplifier With Enhanced PWM Rejection, 50V/V, ±0.01% Gain Accuracy, ±10 μV Offset Voltage, VSSOP-8
pins: 1 -, 2 GND, 3 REF2, 4 GND, 5, 6 V+, 7 REF1, 8 +

## INA241A4xD
designator *  value INA241A4xD  Reference: U
High- and Low-Side, Bidirectional, Zero-Drift, Current-Sense Amplifier With Enhanced PWM Rejection, 100V/V, ±0.01% Gain Accuracy, ±10 μV Offset Voltage, SOIC-8; ki_keywords: current monitor shunt sensor bidirectional high low; ki_fp_filters: SOIC*3.9x4.9mm*P1.27mm*; Footprint: Package_SO:SOIC-8_3.9x4.9mm_P1.27mm; Datasheet: https://www.ti.com/lit/ds/symlink/ina241b.pdf; Description_: High- and Low-Side, Bidirectional, Zero-Drift, Current-Sense Amplifier With Enhanced PWM Rejection, 100V/V, ±0.01% Gain Accuracy, ±10 μV Offset Voltage, SOIC-8
pins: 1 -, 2 GND, 3 REF2, 4 GND, 5, 6 V+, 7 REF1, 8 +

## INA241A4xDDF
designator *  value INA241A4xDDF  Reference: U
High- and Low-Side, Bidirectional, Zero-Drift, Current-Sense Amplifier With Enhanced PWM Rejection, 100V/V, ±0.01% Gain Accuracy, ±10 μV Offset Voltage, SOT-23-8; ki_keywords: current monitor shunt sensor bidirectional high low; ki_fp_filters: SOT?23*; Footprint: Package_TO_SOT_SMD:SOT-23-8; Datasheet: https://www.ti.com/lit/ds/symlink/ina241b.pdf; Description_: High- and Low-Side, Bidirectional, Zero-Drift, Current-Sense Amplifier With Enhanced PWM Rejection, 100V/V, ±0.01% Gain Accuracy, ±10 μV Offset Voltage, SOT-23-8
pins: 1 -, 2 GND, 3 REF2, 4 GND, 5, 6 V+, 7 REF1, 8 +

## INA241A4xDGK
designator *  value INA241A4xDGK  Reference: U
High- and Low-Side, Bidirectional, Zero-Drift, Current-Sense Amplifier With Enhanced PWM Rejection, 100V/V, ±0.01% Gain Accuracy, ±10 μV Offset Voltage, VSSOP-8; ki_keywords: current monitor shunt sensor bidirectional high low; ki_fp_filters: VSSOP*3x3mm*P0.65mm*; Footprint: Package_SO:VSSOP-8_3x3mm_P0.65mm; Datasheet: https://www.ti.com/lit/ds/symlink/ina241b.pdf; Description_: High- and Low-Side, Bidirectional, Zero-Drift, Current-Sense Amplifier With Enhanced PWM Rejection, 100V/V, ±0.01% Gain Accuracy, ±10 μV Offset Voltage, VSSOP-8
pins: 1 -, 2 GND, 3 REF2, 4 GND, 5, 6 V+, 7 REF1, 8 +

## INA241A5xD
designator *  value INA241A5xD  Reference: U
High- and Low-Side, Bidirectional, Zero-Drift, Current-Sense Amplifier With Enhanced PWM Rejection, 200V/V, ±0.01% Gain Accuracy, ±10 μV Offset Voltage, SOIC-8; ki_keywords: current monitor shunt sensor bidirectional high low; ki_fp_filters: SOIC*3.9x4.9mm*P1.27mm*; Footprint: Package_SO:SOIC-8_3.9x4.9mm_P1.27mm; Datasheet: https://www.ti.com/lit/ds/symlink/ina241b.pdf; Description_: High- and Low-Side, Bidirectional, Zero-Drift, Current-Sense Amplifier With Enhanced PWM Rejection, 200V/V, ±0.01% Gain Accuracy, ±10 μV Offset Voltage, SOIC-8
pins: 1 -, 2 GND, 3 REF2, 4 GND, 5, 6 V+, 7 REF1, 8 +

## INA241A5xDDF
designator *  value INA241A5xDDF  Reference: U
High- and Low-Side, Bidirectional, Zero-Drift, Current-Sense Amplifier With Enhanced PWM Rejection, 200V/V, ±0.01% Gain Accuracy, ±10 μV Offset Voltage, SOT-23-8; ki_keywords: current monitor shunt sensor bidirectional high low; ki_fp_filters: SOT?23*; Footprint: Package_TO_SOT_SMD:SOT-23-8; Datasheet: https://www.ti.com/lit/ds/symlink/ina241b.pdf; Description_: High- and Low-Side, Bidirectional, Zero-Drift, Current-Sense Amplifier With Enhanced PWM Rejection, 200V/V, ±0.01% Gain Accuracy, ±10 μV Offset Voltage, SOT-23-8
pins: 1 -, 2 GND, 3 REF2, 4 GND, 5, 6 V+, 7 REF1, 8 +

## INA241A5xDGK
designator *  value INA241A5xDGK  Reference: U
High- and Low-Side, Bidirectional, Zero-Drift, Current-Sense Amplifier With Enhanced PWM Rejection, 200V/V, ±0.01% Gain Accuracy, ±10 μV Offset Voltage, VSSOP-8; ki_keywords: current monitor shunt sensor bidirectional high low; ki_fp_filters: VSSOP*3x3mm*P0.65mm*; Footprint: Package_SO:VSSOP-8_3x3mm_P0.65mm; Datasheet: https://www.ti.com/lit/ds/symlink/ina241b.pdf; Description_: High- and Low-Side, Bidirectional, Zero-Drift, Current-Sense Amplifier With Enhanced PWM Rejection, 200V/V, ±0.01% Gain Accuracy, ±10 μV Offset Voltage, VSSOP-8
pins: 1 -, 2 GND, 3 REF2, 4 GND, 5, 6 V+, 7 REF1, 8 +

## INA241B1xD
designator *  value INA241B1xD  Reference: U
High- and Low-Side, Bidirectional, Zero-Drift, Current-Sense Amplifier With Enhanced PWM Rejection, 10V/V, ±0.1% Gain Accuracy, ±150 μV Offset Voltage, SOIC-8; ki_keywords: current monitor shunt sensor bidirectional high low; ki_fp_filters: SOIC*3.9x4.9mm*P1.27mm*; Footprint: Package_SO:SOIC-8_3.9x4.9mm_P1.27mm; Datasheet: https://www.ti.com/lit/ds/symlink/ina241b.pdf; Description_: High- and Low-Side, Bidirectional, Zero-Drift, Current-Sense Amplifier With Enhanced PWM Rejection, 10V/V, ±0.1% Gain Accuracy, ±150 μV Offset Voltage, SOIC-8
pins: 1 -, 2 GND, 3 REF2, 4 GND, 5, 6 V+, 7 REF1, 8 +

## INA241B1xDDF
designator *  value INA241B1xDDF  Reference: U
High- and Low-Side, Bidirectional, Zero-Drift, Current-Sense Amplifier With Enhanced PWM Rejection, 10V/V, ±0.1% Gain Accuracy, ±150 μV Offset Voltage, SOT-23-8; ki_keywords: current monitor shunt sensor bidirectional high low; ki_fp_filters: SOT?23*; Footprint: Package_TO_SOT_SMD:SOT-23-8; Datasheet: https://www.ti.com/lit/ds/symlink/ina241b.pdf; Description_: High- and Low-Side, Bidirectional, Zero-Drift, Current-Sense Amplifier With Enhanced PWM Rejection, 10V/V, ±0.1% Gain Accuracy, ±150 μV Offset Voltage, SOT-23-8
pins: 1 -, 2 GND, 3 REF2, 4 GND, 5, 6 V+, 7 REF1, 8 +

## INA241B1xDGK
designator *  value INA241B1xDGK  Reference: U
High- and Low-Side, Bidirectional, Zero-Drift, Current-Sense Amplifier With Enhanced PWM Rejection, 10V/V, ±0.1% Gain Accuracy, ±150 μV Offset Voltage, VSSOP-8; ki_keywords: current monitor shunt sensor bidirectional high low; ki_fp_filters: VSSOP*3x3mm*P0.65mm*; Footprint: Package_SO:VSSOP-8_3x3mm_P0.65mm; Datasheet: https://www.ti.com/lit/ds/symlink/ina241b.pdf; Description_: High- and Low-Side, Bidirectional, Zero-Drift, Current-Sense Amplifier With Enhanced PWM Rejection, 10V/V, ±0.1% Gain Accuracy, ±150 μV Offset Voltage, VSSOP-8
pins: 1 -, 2 GND, 3 REF2, 4 GND, 5, 6 V+, 7 REF1, 8 +

## INA241B2xD
designator *  value INA241B2xD  Reference: U
High- and Low-Side, Bidirectional, Zero-Drift, Current-Sense Amplifier With Enhanced PWM Rejection, 20V/V, ±0.1% Gain Accuracy, ±150 μV Offset Voltage, SOIC-8; ki_keywords: current monitor shunt sensor bidirectional high low; ki_fp_filters: SOIC*3.9x4.9mm*P1.27mm*; Footprint: Package_SO:SOIC-8_3.9x4.9mm_P1.27mm; Datasheet: https://www.ti.com/lit/ds/symlink/ina241b.pdf; Description_: High- and Low-Side, Bidirectional, Zero-Drift, Current-Sense Amplifier With Enhanced PWM Rejection, 20V/V, ±0.1% Gain Accuracy, ±150 μV Offset Voltage, SOIC-8
pins: 1 -, 2 GND, 3 REF2, 4 GND, 5, 6 V+, 7 REF1, 8 +

## INA241B2xDDF
designator *  value INA241B2xDDF  Reference: U
High- and Low-Side, Bidirectional, Zero-Drift, Current-Sense Amplifier With Enhanced PWM Rejection, 20V/V, ±0.1% Gain Accuracy, ±150 μV Offset Voltage, SOT-23-8; ki_keywords: current monitor shunt sensor bidirectional high low; ki_fp_filters: SOT?23*; Footprint: Package_TO_SOT_SMD:SOT-23-8; Datasheet: https://www.ti.com/lit/ds/symlink/ina241b.pdf; Description_: High- and Low-Side, Bidirectional, Zero-Drift, Current-Sense Amplifier With Enhanced PWM Rejection, 20V/V, ±0.1% Gain Accuracy, ±150 μV Offset Voltage, SOT-23-8
pins: 1 -, 2 GND, 3 REF2, 4 GND, 5, 6 V+, 7 REF1, 8 +

## INA241B2xDGK
designator *  value INA241B2xDGK  Reference: U
High- and Low-Side, Bidirectional, Zero-Drift, Current-Sense Amplifier With Enhanced PWM Rejection, 20V/V, ±0.1% Gain Accuracy, ±150 μV Offset Voltage, VSSOP-8; ki_keywords: current monitor shunt sensor bidirectional high low; ki_fp_filters: VSSOP*3x3mm*P0.65mm*; Footprint: Package_SO:VSSOP-8_3x3mm_P0.65mm; Datasheet: https://www.ti.com/lit/ds/symlink/ina241b.pdf; Description_: High- and Low-Side, Bidirectional, Zero-Drift, Current-Sense Amplifier With Enhanced PWM Rejection, 20V/V, ±0.1% Gain Accuracy, ±150 μV Offset Voltage, VSSOP-8
pins: 1 -, 2 GND, 3 REF2, 4 GND, 5, 6 V+, 7 REF1, 8 +

## INA241B3xD
designator *  value INA241B3xD  Reference: U
High- and Low-Side, Bidirectional, Zero-Drift, Current-Sense Amplifier With Enhanced PWM Rejection, 50V/V, ±0.1% Gain Accuracy, ±150 μV Offset Voltage, SOIC-8; ki_keywords: current monitor shunt sensor bidirectional high low; ki_fp_filters: SOIC*3.9x4.9mm*P1.27mm*; Footprint: Package_SO:SOIC-8_3.9x4.9mm_P1.27mm; Datasheet: https://www.ti.com/lit/ds/symlink/ina241b.pdf; Description_: High- and Low-Side, Bidirectional, Zero-Drift, Current-Sense Amplifier With Enhanced PWM Rejection, 50V/V, ±0.1% Gain Accuracy, ±150 μV Offset Voltage, SOIC-8
pins: 1 -, 2 GND, 3 REF2, 4 GND, 5, 6 V+, 7 REF1, 8 +

## INA241B3xDDF
designator *  value INA241B3xDDF  Reference: U
High- and Low-Side, Bidirectional, Zero-Drift, Current-Sense Amplifier With Enhanced PWM Rejection, 50V/V, ±0.1% Gain Accuracy, ±150 μV Offset Voltage, SOT-23-8; ki_keywords: current monitor shunt sensor bidirectional high low; ki_fp_filters: SOT?23*; Footprint: Package_TO_SOT_SMD:SOT-23-8; Datasheet: https://www.ti.com/lit/ds/symlink/ina241b.pdf; Description_: High- and Low-Side, Bidirectional, Zero-Drift, Current-Sense Amplifier With Enhanced PWM Rejection, 50V/V, ±0.1% Gain Accuracy, ±150 μV Offset Voltage, SOT-23-8
pins: 1 -, 2 GND, 3 REF2, 4 GND, 5, 6 V+, 7 REF1, 8 +

## INA241B3xDGK
designator *  value INA241B3xDGK  Reference: U
High- and Low-Side, Bidirectional, Zero-Drift, Current-Sense Amplifier With Enhanced PWM Rejection, 50V/V, ±0.1% Gain Accuracy, ±150 μV Offset Voltage, VSSOP-8; ki_keywords: current monitor shunt sensor bidirectional high low; ki_fp_filters: VSSOP*3x3mm*P0.65mm*; Footprint: Package_SO:VSSOP-8_3x3mm_P0.65mm; Datasheet: https://www.ti.com/lit/ds/symlink/ina241b.pdf; Description_: High- and Low-Side, Bidirectional, Zero-Drift, Current-Sense Amplifier With Enhanced PWM Rejection, 50V/V, ±0.1% Gain Accuracy, ±150 μV Offset Voltage, VSSOP-8
pins: 1 -, 2 GND, 3 REF2, 4 GND, 5, 6 V+, 7 REF1, 8 +

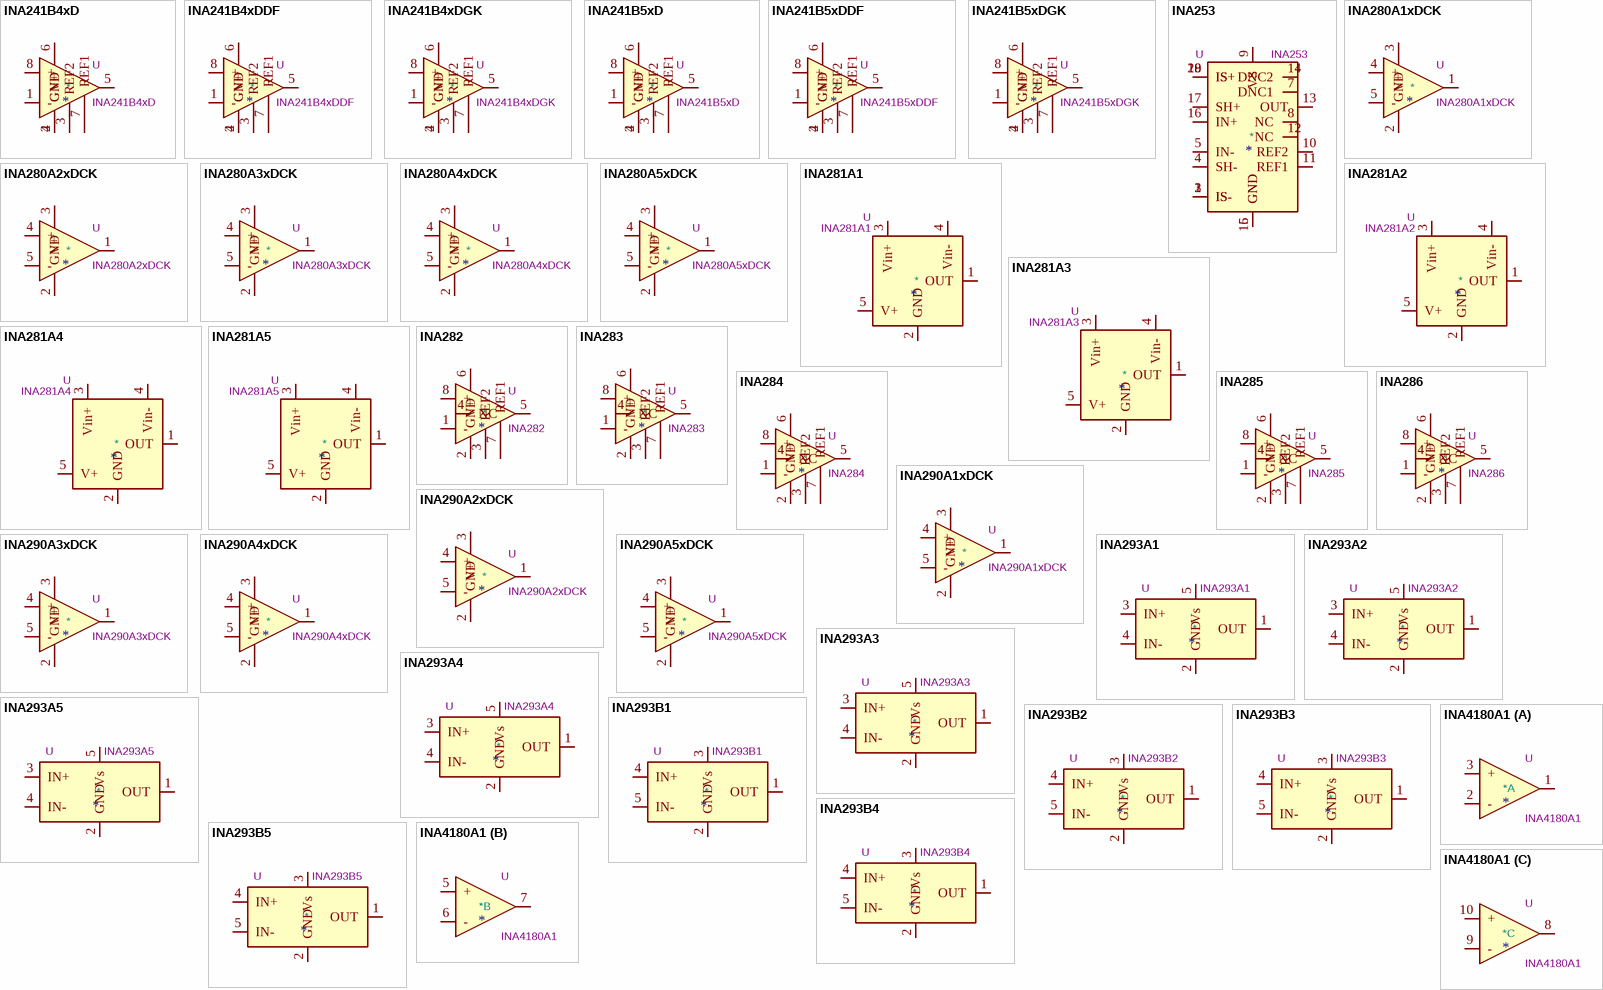
[diagram p2: symbols INA241B4xD to INA4180A1]

## INA241B4xD
designator *  value INA241B4xD  Reference: U
High- and Low-Side, Bidirectional, Zero-Drift, Current-Sense Amplifier With Enhanced PWM Rejection, 100V/V, ±0.1% Gain Accuracy, ±150 μV Offset Voltage, SOIC-8; ki_keywords: current monitor shunt sensor bidirectional high low; ki_fp_filters: SOIC*3.9x4.9mm*P1.27mm*; Footprint: Package_SO:SOIC-8_3.9x4.9mm_P1.27mm; Datasheet: https://www.ti.com/lit/ds/symlink/ina241b.pdf; Description_: High- and Low-Side, Bidirectional, Zero-Drift, Current-Sense Amplifier With Enhanced PWM Rejection, 100V/V, ±0.1% Gain Accuracy, ±150 μV Offset Voltage, SOIC-8
pins: 1 -, 2 GND, 3 REF2, 4 GND, 5, 6 V+, 7 REF1, 8 +

## INA241B4xDDF
designator *  value INA241B4xDDF  Reference: U
High- and Low-Side, Bidirectional, Zero-Drift, Current-Sense Amplifier With Enhanced PWM Rejection, 100V/V, ±0.1% Gain Accuracy, ±150 μV Offset Voltage, SOT-23-8; ki_keywords: current monitor shunt sensor bidirectional high low; ki_fp_filters: SOT?23*; Footprint: Package_TO_SOT_SMD:SOT-23-8; Datasheet: https://www.ti.com/lit/ds/symlink/ina241b.pdf; Description_: High- and Low-Side, Bidirectional, Zero-Drift, Current-Sense Amplifier With Enhanced PWM Rejection, 100V/V, ±0.1% Gain Accuracy, ±150 μV Offset Voltage, SOT-23-8
pins: 1 -, 2 GND, 3 REF2, 4 GND, 5, 6 V+, 7 REF1, 8 +

## INA241B4xDGK
designator *  value INA241B4xDGK  Reference: U
High- and Low-Side, Bidirectional, Zero-Drift, Current-Sense Amplifier With Enhanced PWM Rejection, 100V/V, ±0.1% Gain Accuracy, ±150 μV Offset Voltage, VSSOP-8; ki_keywords: current monitor shunt sensor bidirectional high low; ki_fp_filters: VSSOP*3x3mm*P0.65mm*; Footprint: Package_SO:VSSOP-8_3x3mm_P0.65mm; Datasheet: https://www.ti.com/lit/ds/symlink/ina241b.pdf; Description_: High- and Low-Side, Bidirectional, Zero-Drift, Current-Sense Amplifier With Enhanced PWM Rejection, 100V/V, ±0.1% Gain Accuracy, ±150 μV Offset Voltage, VSSOP-8
pins: 1 -, 2 GND, 3 REF2, 4 GND, 5, 6 V+, 7 REF1, 8 +

## INA241B5xD
designator *  value INA241B5xD  Reference: U
High- and Low-Side, Bidirectional, Zero-Drift, Current-Sense Amplifier With Enhanced PWM Rejection, 200V/V, ±0.1% Gain Accuracy, ±150 μV Offset Voltage, SOIC-8; ki_keywords: current monitor shunt sensor bidirectional high low; ki_fp_filters: SOIC*3.9x4.9mm*P1.27mm*; Footprint: Package_SO:SOIC-8_3.9x4.9mm_P1.27mm; Datasheet: https://www.ti.com/lit/ds/symlink/ina241b.pdf; Description_: High- and Low-Side, Bidirectional, Zero-Drift, Current-Sense Amplifier With Enhanced PWM Rejection, 200V/V, ±0.1% Gain Accuracy, ±150 μV Offset Voltage, SOIC-8
pins: 1 -, 2 GND, 3 REF2, 4 GND, 5, 6 V+, 7 REF1, 8 +

## INA241B5xDDF
designator *  value INA241B5xDDF  Reference: U
High- and Low-Side, Bidirectional, Zero-Drift, Current-Sense Amplifier With Enhanced PWM Rejection, 200V/V, ±0.1% Gain Accuracy, ±150 μV Offset Voltage, SOT-23-8; ki_keywords: current monitor shunt sensor bidirectional high low; ki_fp_filters: SOT?23*; Footprint: Package_TO_SOT_SMD:SOT-23-8; Datasheet: https://www.ti.com/lit/ds/symlink/ina241b.pdf; Description_: High- and Low-Side, Bidirectional, Zero-Drift, Current-Sense Amplifier With Enhanced PWM Rejection, 200V/V, ±0.1% Gain Accuracy, ±150 μV Offset Voltage, SOT-23-8
pins: 1 -, 2 GND, 3 REF2, 4 GND, 5, 6 V+, 7 REF1, 8 +

## INA241B5xDGK
designator *  value INA241B5xDGK  Reference: U
High- and Low-Side, Bidirectional, Zero-Drift, Current-Sense Amplifier With Enhanced PWM Rejection, 200V/V, ±0.1% Gain Accuracy, ±150 μV Offset Voltage, VSSOP-8; ki_keywords: current monitor shunt sensor bidirectional high low; ki_fp_filters: VSSOP*3x3mm*P0.65mm*; Footprint: Package_SO:VSSOP-8_3x3mm_P0.65mm; Datasheet: https://www.ti.com/lit/ds/symlink/ina241b.pdf; Description_: High- and Low-Side, Bidirectional, Zero-Drift, Current-Sense Amplifier With Enhanced PWM Rejection, 200V/V, ±0.1% Gain Accuracy, ±150 μV Offset Voltage, VSSOP-8
pins: 1 -, 2 GND, 3 REF2, 4 GND, 5, 6 V+, 7 REF1, 8 +

## INA253
designator *  value INA253  Reference: U
High Voltage, Bidirectional, Zero-Drift, Current-ShuntMonitor With Integrated, 2-mΩ, Precision, Low Inductive Shunt Resistor, TSSOP-20; ki_keywords: shunt current amplifier bidirectional; ki_fp_filters: TSSOP*4.4x6.5mm*P0.65mm*; Footprint: Package_SO:TSSOP-20_4.4x6.5mm_P0.65mm; Datasheet: http://www.ti.com/lit/ds/symlink/ina253.pdf; Description_: High Voltage, Bidirectional, Zero-Drift, Current-ShuntMonitor With Integrated, 2-mΩ, Precision, Low Inductive Shunt Resistor, TSSOP-20
pins: 1 IS-, 2 IS-, 3 IS-, 4 SH-, 5 IN-, 6 GND, 7 DNC1, 8 NC, 9 VS, 10 REF2, 11 REF1, 12 NC, 13 OUT, 14 DNC2, 15 GND, 16 IN+, 17 SH+, 18 IS+, 19 IS+, 20 IS+

## INA280A1xDCK
designator *  value INA280A1xDCK  Reference: U
Current Sense Amplifier, 2.7-V to 120-V Common Mode, 1.1-MHz, Gain 20 V/V, SC-70; ki_keywords: monitor shunt sensor; ki_fp_filters: SOT?353*; Footprint: Package_TO_SOT_SMD:SOT-353_SC-70-5; Datasheet: https://www.ti.com/lit/ds/symlink/ina280.pdf; Description_: Current Sense Amplifier, 2.7-V to 120-V Common Mode, 1.1-MHz, Gain 20 V/V, SC-70
pins: 1, 2 GND, 3 V+, 4 +, 5 -

## INA280A2xDCK
designator *  value INA280A2xDCK  Reference: U
Current Sense Amplifier, 2.7-V to 120-V Common Mode, 1.1-MHz, Gain 50 V/V, SC-70; ki_keywords: monitor shunt sensor; ki_fp_filters: SOT?353*; Footprint: Package_TO_SOT_SMD:SOT-353_SC-70-5; Datasheet: https://www.ti.com/lit/ds/symlink/ina280.pdf; Description_: Current Sense Amplifier, 2.7-V to 120-V Common Mode, 1.1-MHz, Gain 50 V/V, SC-70
pins: 1, 2 GND, 3 V+, 4 +, 5 -